# EAGLE library part 61302221121 (library motor_controller)
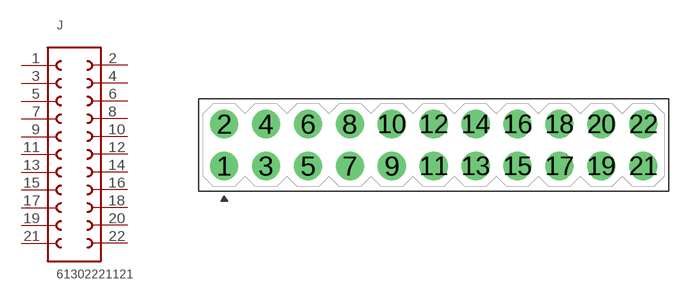
[diagram p1: symbol with the pads of HDRV22W64P254_2X11_2794X508X854B; footprint HDRV22W64P254_2X11_2794X508X854B]

Designator prefix J

## 61302221121 (MF: Würth Elektronik; MPN: 61302221121)  [HDRV22W64P254_2X11_2794X508X854B]
1  1  pas
2  2  pas
3  3  pas
4  4  pas
5  5  pas
6  6  pas
7  7  pas
8  8  pas
9  9  pas
10  10  pas
11  11  pas
12  12  pas
13  13  pas
14  14  pas
15  15  pas
16  16  pas
17  17  pas
18  18  pas
19  19  pas
20  20  pas
21  21  pas
22  22  pas

## Footprint HDRV22W64P254_2X11_2794X508X854B (pad centres in mm)
Double-row, 22-pin Pin Header (Male) Straight, 2.54 mm (0.10 in) row pitch, 2.54 mm (0.10 in) col pitch, 6.00 mm mating length, 27.94 X 5.08 X 8.54 mm body Double-row (2X11), 22-pin Pin Header (Male) Straight package with 2.54 mm (0.10 in) row pitch, 2.54 mm (0.10 in) col pitch, 0.64 mm lead width, 3.00 mm tail length and 6.00 mm mating length with overall size 27.94 X 5.08 X 8.54 mm, pin pattern - zigzag from bottom left
drill 1.1 pad 1.705: 1 -12.7,-1.27; 2 -12.7,1.27; 3 -10.16,-1.27; 4 -10.16,1.27; 5 -7.62,-1.27; 6 -7.62,1.27; 7 -5.08,-1.27; 8 -5.08,1.27; 9 -2.54,-1.27; 10 -2.54,1.27; 11 0,-1.27; 12 0,1.27; 13 2.54,-1.27; 14 2.54,1.27; 15 5.08,-1.27; 16 5.08,1.27; 17 7.62,-1.27; 18 7.62,1.27; 19 10.16,-1.27; 20 10.16,1.27; 21 12.7,-1.27; 22 12.7,1.27